# EAGLE library part 6123XX20621_61232020621 (library Wurth_Connectors_WR-BHD)
WR-BHD 2.54 mm Male SMT Box Header Material Properties: Insulator Material PA 9T; PA9T Insulator Flammability Rating UL94 V-0 Color Black Contact Material Copper Alloy Contact Plating Gold Contact Type Stamped General Information Operating Temperature -40 up to +125 °C Compliance RoHS Working Voltage 250 V (AC) Withstanding Voltage 500 V (AC) Contact Resistance 20 mΩ RISO 1000 MΩ Pitch 2.54 mm Gender Male Certification UL Approval E323964 Packaging Properties Packaging Tape and Reel with Cap <https://www.we-online.com/components/media/o32919v209%20Family_WR-BHD_612xxx20621.jpg> Details see: www.we-online.com/en/components/products/BHD_2_54_SMT_MALE_BOX_HEADER_6120XX20621 <www.we-online.com/catalog/BHD_2_54_SMT_MALE_BOX_HEADER_6120XX20621/?utm_source=eagle_model&utm_medium=description_link&utm_campaign=eisos_eagle> Updated by Ella Wu 2022-09-06 2022 (C) Würth Elektronik
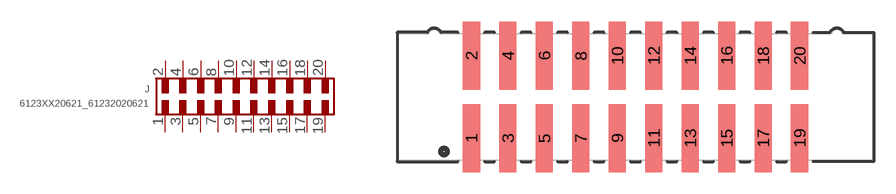
[diagram p81: symbol with the pads of 61232020621; footprint 61232020621]

Designator prefix J

## 6123XX20621_61232020621 (CONTACT-RESISTANCE: 20mOhm; DATASHEET-URL: https://www.we-online.com/redexpert/spec/61232020621?ae; GENDER: Male; IR: 3A; LENGTH: 33.05mm; MOUNT: SMT; PACKAGING: Tape and Reel with Cap; PART-NUMBER: 61232020621; PINS: 20; PITCH: 2.54mm; TYPE: Straight; VALUE: 61232020621; WORKING-VOLTAGE: 250V(AC))  [61232020621]
1  1  pas
2  2  pas
3  3  pas
4  4  pas
5  5  pas
6  6  pas
7  7  pas
8  8  pas
9  9  pas
10  10  pas
11  11  pas
12  12  pas
13  13  pas
14  14  pas
15  15  pas
16  16  pas
17  17  pas
18  18  pas
19  19  pas
20  20  pas

## Footprint 61232020621 (pad centres in mm)
WR-BHD 2.54 mm Male SMT Box Header 2.54 mm, SMT, 20Pins
smd 1.2 x 4.75: 1 -11.43,-2.875; 2 -11.43,2.875; 3 -8.89,-2.875; 4 -8.89,2.875; 5 -6.35,-2.875; 6 -6.35,2.875; 7 -3.81,-2.875; 8 -3.81,2.875; 9 -1.27,-2.875; 10 -1.27,2.875; 11 1.27,-2.875; 12 1.27,2.875; 13 3.81,-2.875; 14 3.81,2.875; 15 6.35,-2.875; 16 6.35,2.875; 17 8.89,-2.875; 18 8.89,2.875; 19 11.43,-2.875; 20 11.43,2.875